# Altium schematic symbol library LIB_ADAPTONE_EMILE_LAPLANTE.SchLib: 13 symbols
Pins are listed as number, name and electrical type; pins without a type are passive.

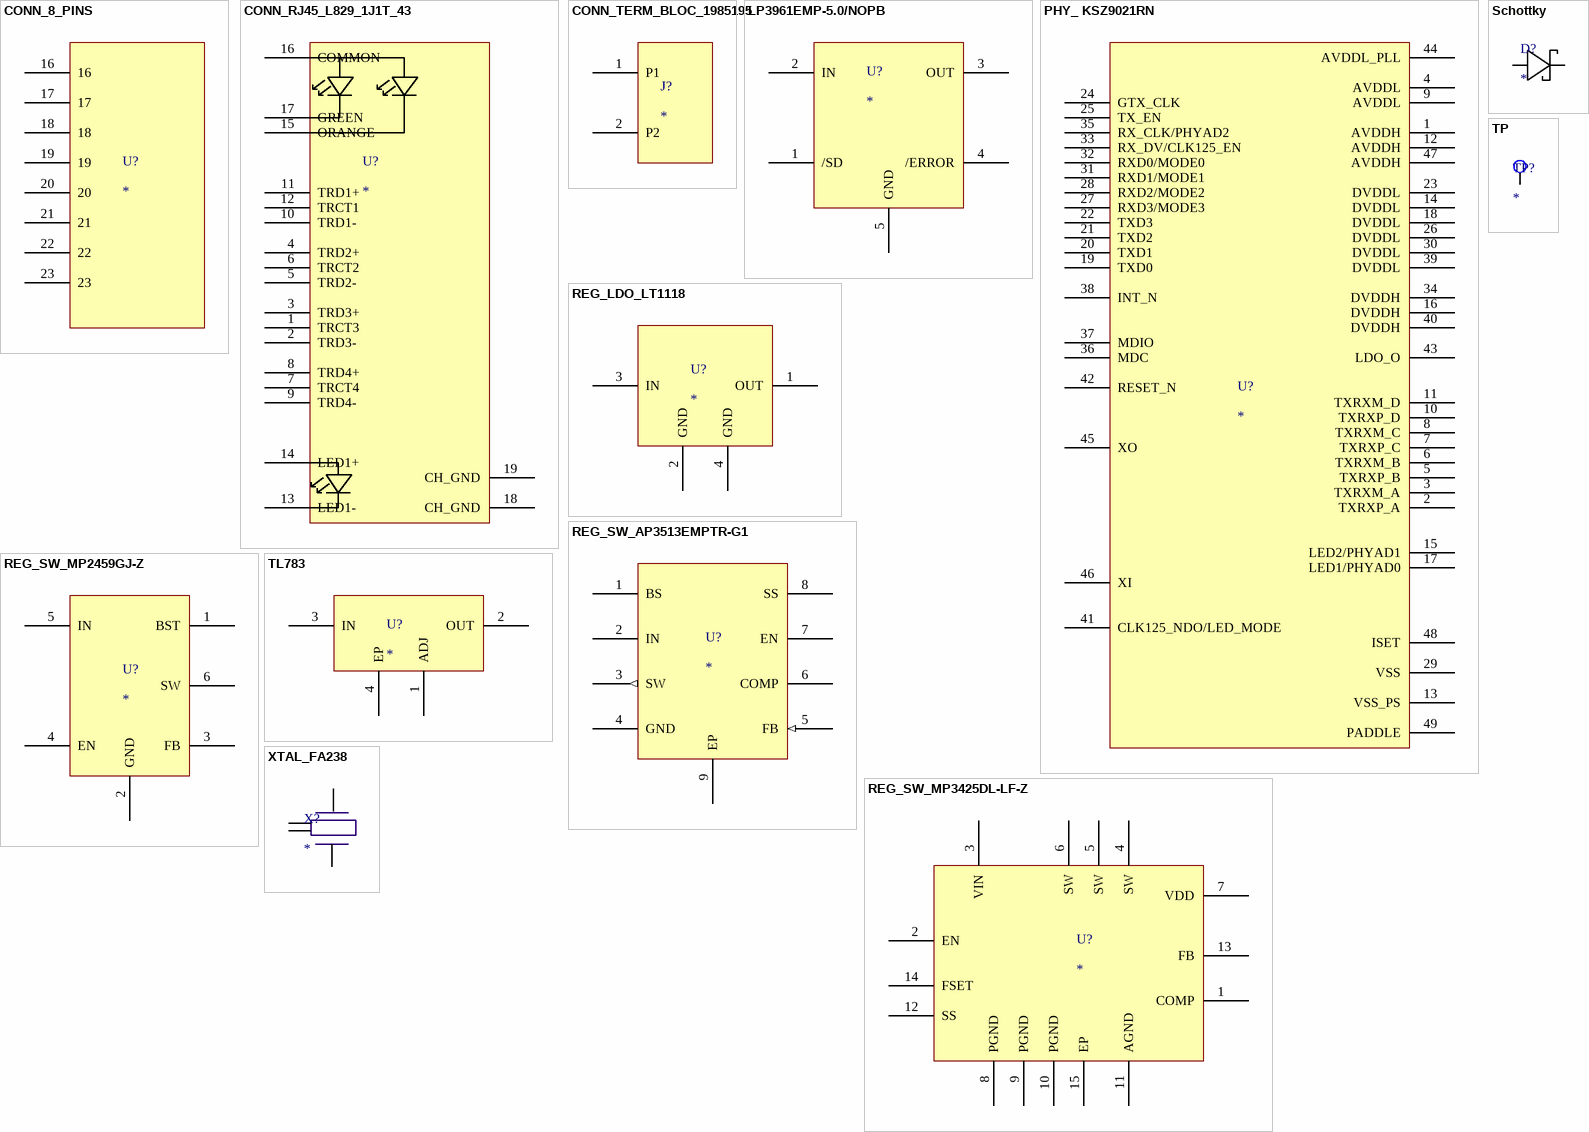
[diagram p0: symbols CONN_8_PINS to XTAL_FA238]

## CONN_8_PINS
designator U?
Mfg Part Number: L829-1J1T-43; Mfg: Bel Fuse Inc.; CreatedBy: Emile Laplante; HelpURL: https://www.digikey.ca/products/en?keywords=L829-1J1T-43; NI: *; Package: RJ45; Power: *; Supplier: Digikey; Supplier Part Numer: 380-1110-ND; Temperature: *; Value: *; VerifiedBy: *; Voltage: *
footprint L829-1J1T-43
pins: 16, 17, 18, 19, 20, 21, 22, 23

## CONN_RJ45_L829_1J1T_43
designator U?
Mfg Part Number: L829-1J1T-43; Mfg: Bel Fuse Inc.; CreatedBy: Emile Laplante; HelpURL: https://www.digikey.ca/products/en?keywords=L829-1J1T-43; NI: *; Package: RJ45; Power: *; Supplier: Digikey; Supplier Part Numer: 380-1110-ND; Temperature: *; Value: *; VerifiedBy: *; Voltage: *
footprint L829-1J1T-43
pins: 1 TRCT3 (power), 2 TRD3- (power), 3 TRD3+ (power), 4 TRD2+ (power), 5 TRD2- (power), 6 TRCT2 (power), 7 TRCT4 (power), 8 TRD4+ (power), 9 TRD4- (power), 10 TRD1- (power), 11 TRD1+ (power), 12 TRCT1 (power), 13 LED1-, 14 LED1+, 15 ORANGE, 16 COMMON, 17 GREEN, 18 CH_GND, 19 CH_GND

## CONN_TERM_BLOC_1985195
designator J?
Mfg Part Number: 1985195; Mfg: Phoenix Contact; CreatedBy: Emile Laplante; HelpURL: https://www.digikey.ca/product-detail/en/phoenix-contact/1985195/277-1622-ND/568659; NI: *; Package: RJ45; Power: *; Supplier: Digikey; Supplier Part Numer: 277-1622-ND; Temperature: *; Value: *; VerifiedBy: *; Voltage: *
footprint TERM BLOCK
pins: 1 P1, 2 P2

## LP3961EMP-5.0/NOPB
designator U?
Mfg Part Number: LP3961EMP-5.0/NOPB; Mfg: Texas Instruments; CreatedBy: Emile Laplante; HelpURL: https://www.digikey.ca/product-detail/en/texas-instruments/LP3961EMP-5.0-NOPB/LP3961EMP-5.0-NOPBCT-ND/364674; NI: *; Package: *; Power: *; Supplier: Digikey; Supplier Part Numer: LP3961EMP-5.0/NOPBCT-ND; Temperature: *; Value: *; VerifiedBy: *; Voltage: *
footprint TL783 (TO-263-4)
pins: 1 /SD, 2 IN, 3 OUT, 4 /ERROR, 5 GND

## PHY_ KSZ9021RN
designator U?
Mfg Part Number: KSZ9021RN; Mfg: Microchip Technology; CreatedBy: Emile Laplante; HelpURL: https://www.digikey.ca/product-detail/en/microchip-technology/KSZ9021RN/576-3637-ND/2184487; NI: *; Package: 48-VFQFN Exposed Pad; Power: *; Supplier: Digikey; Supplier Part Numer: 576-3637-ND; Temperature: *; Value: *; VerifiedBy: *; Voltage: *
footprint PHY_KSZ9021RN (QFN, 48-Leads, Body 7,00x7,00mm, Pitch 0,50mm, Thermal Pad 5,10x5,10mm, IPC Medium Density)
pins: 1 AVDDH, 2 TXRXP_A (power), 3 TXRXM_A (power), 4 AVDDL, 5 TXRXP_B (power), 6 TXRXM_B (power), 7 TXRXP_C (power), 8 TXRXM_C (power), 9 AVDDL, 10 TXRXP_D (power), 11 TXRXM_D (power), 12 AVDDH, 13 VSS_PS, 14 DVDDL, 15 LED2/PHYAD1 (power), 16 DVDDH, 17 LED1/PHYAD0 (power), 18 DVDDL, 19 TXD0 (power), 20 TXD1 (power), 21 TXD2 (power), 22 TXD3 (power), 23 DVDDL, 24 GTX_CLK (power), 25 TX_EN (power), 26 DVDDL, 27 RXD3/MODE3 (power), 28 RXD2/MODE2 (power), 29 VSS, 30 DVDDL, 31 RXD1/MODE1 (power), 32 RXD0/MODE0 (power), 33 RX_DV/CLK125_EN (power), 34 DVDDH, 35 RX_CLK/PHYAD2 (power), 36 MDC (power), 37 MDIO (power), 38 INT_N (power), 39 DVDDL, 40 DVDDH, 41 CLK125_NDO/LED_MODE (power), 42 RESET_N (power), 43 LDO_O, 44 AVDDL_PLL, 45 XO (power), 46 XI (power), 47 AVDDH, 48 ISET, 49 PADDLE

## REG_LDO_LT1118
designator U?
Mfg Part Number: LT1118CST-2.5#PBF; Mfg: Linear Technology/Analog Devices; CreatedBy: Emile Laplante; HelpURL: https://www.digikey.ca/product-detail/en/texas-instruments/LP3985IM5X-2.5-NOPB/LP3985IM5X-2.5-NOPBCT-ND/3527410; NI: *; Package: SOT-223-3; Power: *; Supplier: Digikey; Supplier Part Numer: LT1118CST-2.5#PBF-ND; Temperature: *; Value: *; VerifiedBy: *; Voltage: *
footprint SOT-223-3
pins: 1 OUT, 2 GND, 3 IN, 4 GND

## REG_SW_AP3513EMPTR-G1
designator U?
Mfg Part Number: AP3513EMPTR-G1; Mfg: Diodes Incorporated; CreatedBy: Emile Laplante; HelpURL: https://www.digikey.ca/product-detail/en/diodes-incorporated/AP3513EMPTR-G1/AP3513EMPTR-G1DICT-ND/4505181; NI: *; Power: *; Supplier: Digikey; Supplier Part Numer: AP3513EMPTR-G1DICT-ND; Temperature: *; Value: *; VerifiedBy: *; Voltage: *
footprint L829-1J1T-43
footprint AP3513EMPTR-G1 (SW REG)
footprint AP3513EMPTR-G1 (SW REG)
footprint AP3513EMPTR-G1 (SW REG)
pins: 1 BS, 2 IN (power), 3 SW (out), 4 GND, 5 FB (in), 6 COMP, 7 EN, 8 SS, 9 EP

## REG_SW_MP2459GJ-Z
designator U?
Mfg Part Number: MP2459GJ-Z; Mfg: Monolithic Power Systems Inc.; CreatedBy: Emile Laplante; HelpURL: https://www.digikey.ca/product-detail/en/monolithic-power-systems-inc/MP2459GJ-Z/1589-1895-1-ND/5292061; NI: *; Package: *; Power: *; Supplier: Digikey; Supplier Part Numer: 1589-1895-1-ND; Temperature: *; Value: *; VerifiedBy: *; Voltage: *
footprint MP2459GJ-Z
pins: 1 BST, 2 GND, 3 FB, 4 EN, 5 IN, 6 SW

## REG_SW_MP3425DL-LF-Z
designator U?
Mfg Part Number: MP3425DL-LF-Z; Mfg: Monolithic Power Systems Inc.; CreatedBy: Emile Laplante; HelpURL: https://www.digikey.ca/product-detail/en/monolithic-power-systems-inc/MP3425DL-LF-Z/1589-1643-1-ND/9433409; NI: *; Power: *; Supplier: Digikey; Supplier Part Numer: 1589-1643-1-ND; Temperature: *; Value: *; VerifiedBy: *; Voltage: *
footprint 14-VFDFN Exposed Pad
pins: 1 COMP, 2 EN, 3 VIN, 4 SW, 5 SW, 6 SW, 7 VDD, 8 PGND, 9 PGND, 10 PGND, 11 AGND, 12 SS, 13 FB, 14 FSET, 15 EP

## Schottky
designator D?
CreatedBy: Emile Laplante; HelpURL: *; Mfg: *; Mfg Part Number: *; NI: *; Package: *; Power: *; Supplier: *; Supplier Part Numer: *; Temperature: *; Value: *; VerifiedBy: *; Voltage: *
footprint SOD-123
pins: 1 anode, 2 cathode

## TL783
designator U?
Mfg Part Number: TL783CKTTR; Mfg: Texas Instruments; CreatedBy: Emile Laplante; HelpURL: https://www.digikey.ca/product-detail/en/texas-instruments/TL783CKTTR/296-20778-1-ND/1204637; NI: *; Package: *; Power: *; Supplier: Digikey; Supplier Part Numer: 296-20778-1-ND; Temperature: *; Value: *; VerifiedBy: *; Voltage: *
footprint TL783 (TO-263-4)
pins: 1 ADJ, 2 OUT, 3 IN, 4 EP

## TP
designator TP?
pins: 1

## XTAL_FA238
designator X?
Mfg Part Number: FA-238 25.0000MB-K3; Mfg: EPSON; Value: 25.00 MHz; CreatedBy: Emile Laplante; HelpURL: https://www.digikey.ca/product-detail/en/epson/FA-238-25.0000MB-K3/SER3692CT-ND/2403465; NI: *; Package: 40-WFQFN Exposed Pad; Power: *; Supplier: Digikey; Supplier Part Numer: SER3692CT-ND; Temperature: -40 C to 125 C; VerifiedBy: *; Voltage: *
footprint XTAL_FA238
pins: 1, 2, 3, 4